# Altium schematic symbol library L0603.SchLib: 1 symbol
Pins are listed as number, name and electrical type; pins without a type are passive.

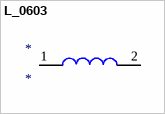
[diagram p0: symbol L_0603]

## L_0603
designator *
footprint L
pins: 1, 2